# Altium footprint library Crystals.PcbLib: 22 footprints (part 2 of 2)
Each footprint in its own frame and in the unit in brackets; x right, y up, seen from the top. Pads: shape width x height; smd on the part's side, far side on the other; paste and mask are expansions set on the pad; w line width, h text height; cw(c..) or ccw(c..) is an arc to the next point about the centre after c.
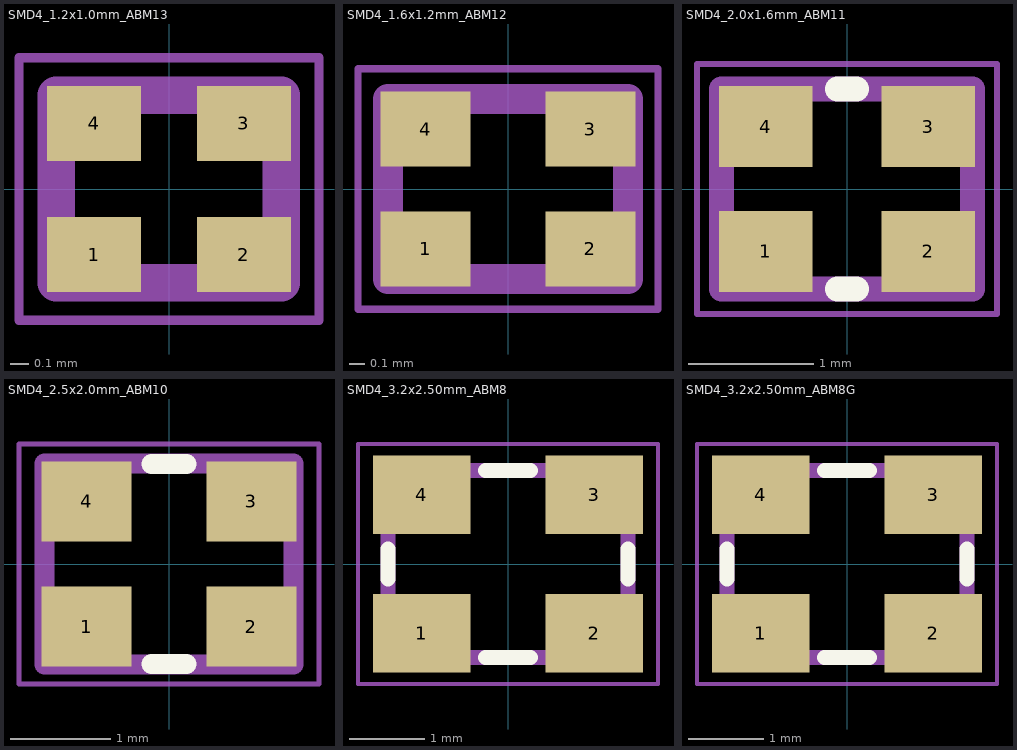
[diagram p1: the footprints below, top view; thin cyan lines are the x and y axes]

## SMD4_1.2x1.0mm_ABM13 [mm]
pads (4):
  rect 0.5x0.4 smd: 1(-0.4,-0.35) 2(0.4,-0.35) 3(0.4,0.35) 4(-0.4,0.35)
Mechanical 13:
  lines w0.2: -0.6,-0.5 -0.6,0.5 0.6,0.5 0.6,-0.5 -0.6,-0.5
Mechanical 15:
  lines w0.05: -0.8,-0.7 -0.8,0.7 0.8,0.7 0.8,-0.7 -0.8,-0.7
  text ".Designator" at -0.9,0 h0.5
3D body "ABM13[1].STEP": height 0.3, standoff 0, extent -0.6,-0.5 0.6,0.5

## SMD4_1.6x1.2mm_ABM12 [mm]
pads (4):
  rect 0.6x0.5 smd: 1(-0.55,-0.4) 2(0.55,-0.4) 3(0.55,0.4) 4(-0.55,0.4)
Mechanical 13:
  lines w0.2: -0.8,-0.6 -0.8,0.6 0.8,0.6 0.8,-0.6 -0.8,-0.6
Mechanical 15:
  lines w0.05: -1,-0.8 -1,0.8 1,0.8 1,-0.8 -1,-0.8
  text ".Designator" at -0.9,0 h0.5
3D body "ABM12[1].STEP": height 0.4, standoff 0, extent -0.8,-0.6 0.8,0.6

## SMD4_2.0x1.6mm_ABM11 [mm]
pads (4):
  rect 0.75x0.65 smd: 1(-0.65,-0.5) 2(0.65,-0.5) 3(0.65,0.5) 4(-0.65,0.5)
Top Overlay:
  lines w0.2: -0.075,-0.8 0.075,-0.8 ; -0.075,0.8 0.075,0.8
Mechanical 13:
  lines w0.2: -1.003,-0.8 -1.003,0.8 1.003,0.8 1.003,-0.8 -1.003,-0.8
Mechanical 15:
  lines w0.05: -1.2,-1 -1.2,1 1.2,1 1.2,-1 -1.2,-1
  text ".Designator" at -0.9,0 h0.5
3D body "ABM11[1].STEP": height 0.59, standoff 0, extent -1.003,-0.8 1.003,0.8

## SMD4_2.5x2.0mm_ABM10 [mm]
pads (4):
  rect 0.9x0.8 smd: 1(-0.825,-0.625) 2(0.825,-0.625) 3(0.825,0.625) 4(-0.825,0.625)
Top Overlay:
  lines w0.2: -0.175,-1 0.175,-1 ; -0.175,1 0.175,1
Mechanical 13:
  lines w0.2: -1.244,-1.003 1.245,-1.003 1.245,1.003 -1.244,1.003 -1.244,-1.003
Mechanical 15:
  lines w0.05: -1.5,-1.2 -1.5,1.2 1.5,1.2 1.5,-1.2 -1.5,-1.2
  text ".Designator" at -0.9,0 h0.5
3D body "ABM10.STEP": height 0.51, standoff 0, extent -1.244,-1.003 1.245,1.003

## SMD4_3.2x2.50mm_ABM8 [mm]
pads (4):
  rect 1.3x1.05 smd: 1(-1.15,-0.925) 2(1.15,-0.925) 3(1.15,0.925) 4(-1.15,0.925)
Top Overlay:
  lines w0.2: -1.6,-0.2 -1.6,0.2 ; -0.3,-1.25 0.3,-1.25 ; -0.3,1.25 0.3,1.25 ; 1.6,-0.2 1.6,0.2
Mechanical 13:
  lines w0.2: -1.6,-1.245 1.6,-1.245 1.6,1.244 -1.6,1.244 -1.6,-1.245
Mechanical 15:
  lines w0.05: -2,-1.6 -2,1.6 2,1.6 2,-1.6 -2,-1.6
  text ".Designator" at -0.9,0 h0.5
3D body "ABM8[1].STEP": height 0.8, standoff 0, extent -1.6,-1.245 1.6,1.244

## SMD4_3.2x2.50mm_ABM8G [mm]
pads (4):
  rect 1.3x1.05 smd: 1(-1.15,-0.925) 2(1.15,-0.925) 3(1.15,0.925) 4(-1.15,0.925)
Top Overlay:
  lines w0.2: -1.6,-0.2 -1.6,0.2 ; -0.3,-1.25 0.3,-1.25 ; -0.3,1.25 0.3,1.25 ; 1.6,-0.2 1.6,0.2
Mechanical 13:
  lines w0.2: -1.6,-1.245 -1.6,1.244 1.6,1.244 1.6,-1.245 -1.6,-1.245
Mechanical 15:
  lines w0.05: -2,-1.6 -2,1.6 2,1.6 2,-1.6 -2,-1.6
  text ".Designator" at -0.9,0 h0.5
3D body "ABM8G[1].STEP": height 0.99, standoff 0, extent -1.6,-1.245 1.6,1.244